# Altium schematic symbol library BD82028FVJGE2.SchLib: 1 symbol
Pins are listed as number, name and electrical type; pins without a type are passive.

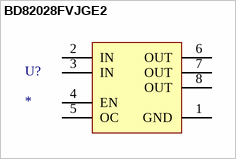
[diagram p0: symbol BD82028FVJGE2]

## BD82028FVJGE2
designator U?
pins: 1 GND, 2 IN, 3 IN, 4 EN, 5 OC, 6 OUT, 7 OUT, 8 OUT